# Altium footprint library Alpha_RV16AF-20-15R1.PcbLib: 1 footprints
Each footprint in its own frame and in the unit in brackets; x right, y up, seen from the top. Pads: shape width x height; smd on the part's side, far side on the other; paste and mask are expansions set on the pad; w line width, h text height; cw(c..) or ccw(c..) is an arc to the next point about the centre after c.
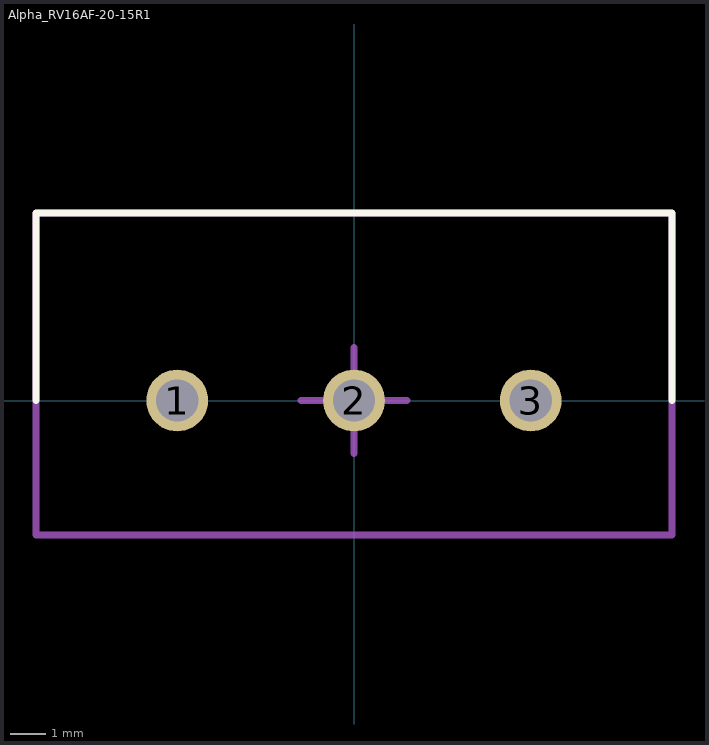
[diagram p0: the footprint, top view; thin cyan lines are the x and y axes]

## Alpha_RV16AF-20-15R1 [mm] "Alpha 16mm Smooth Shaft PC Mount"
pads (3):
  round 1.75 hole 1.2: 1(-5,0) 2(0,0) 3(5,0)
Top Overlay:
  lines w0.2: -9,0 -9,5.3 9,5.3 9,0
Mechanical 15:
  lines w0.2: -1.5,0 1.5,0 ; 0,-1.5 0,1.5 ; -9,-3.8 -9,5.3 9,5.3 9,-3.8 -9,-3.8
Mechanical 17:
  text ".Designator" at -7.4,2.6 h1.52
Mechanical 19:
  text ".Comment" at -7.4,2.6 h1.52
3D body: height 20.12, standoff -4.5, extent -7.874,-20.732 7.874,4.826